# EAGLE library part TC4051B (library Tic-Tac-Toe_Component)
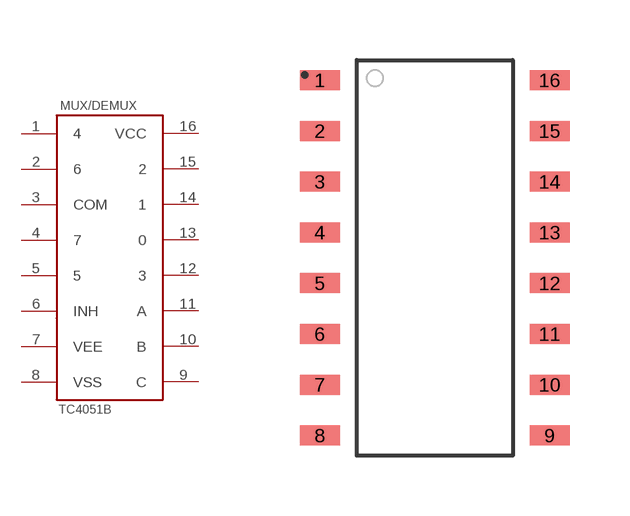
[diagram p2: symbol with the pads of TC4051B-MUX/DEMUX; footprint TC4051B-MUX/DEMUX]

Designator prefix MUX/DEMUX

## TC4051B  [TC4051B-MUX/DEMUX]
1  4  in
2  6  in
3  COM  in
4  7  in
5  5  out
6  INH  out
7  VEE  in
8  VSS  pwr
9  C  in
10  B  in
11  A  in
12  3  in
13  0  in
14  1  in
15  2  in
16  VCC  pwr

## Footprint TC4051B-MUX/DEMUX (pad centres in mm)
smd 1 x 0.5: 1 -2.875,4.445; 2 -2.875,3.175; 3 -2.875,1.905; 4 -2.875,0.635; 5 -2.875,-0.635; 6 -2.875,-1.905; 7 -2.875,-3.175; 8 -2.875,-4.445; 9 2.875,-4.445; 10 2.875,-3.175; 11 2.875,-1.905; 12 2.875,-0.635; 13 2.875,0.635; 14 2.875,1.905; 15 2.875,3.175; 16 2.875,4.445